# Altium schematic symbol library MDK_UltraZohm_Adapter.SCHLIB: 14 symbols
Pins are listed as number, name and electrical type; pins without a type are passive.

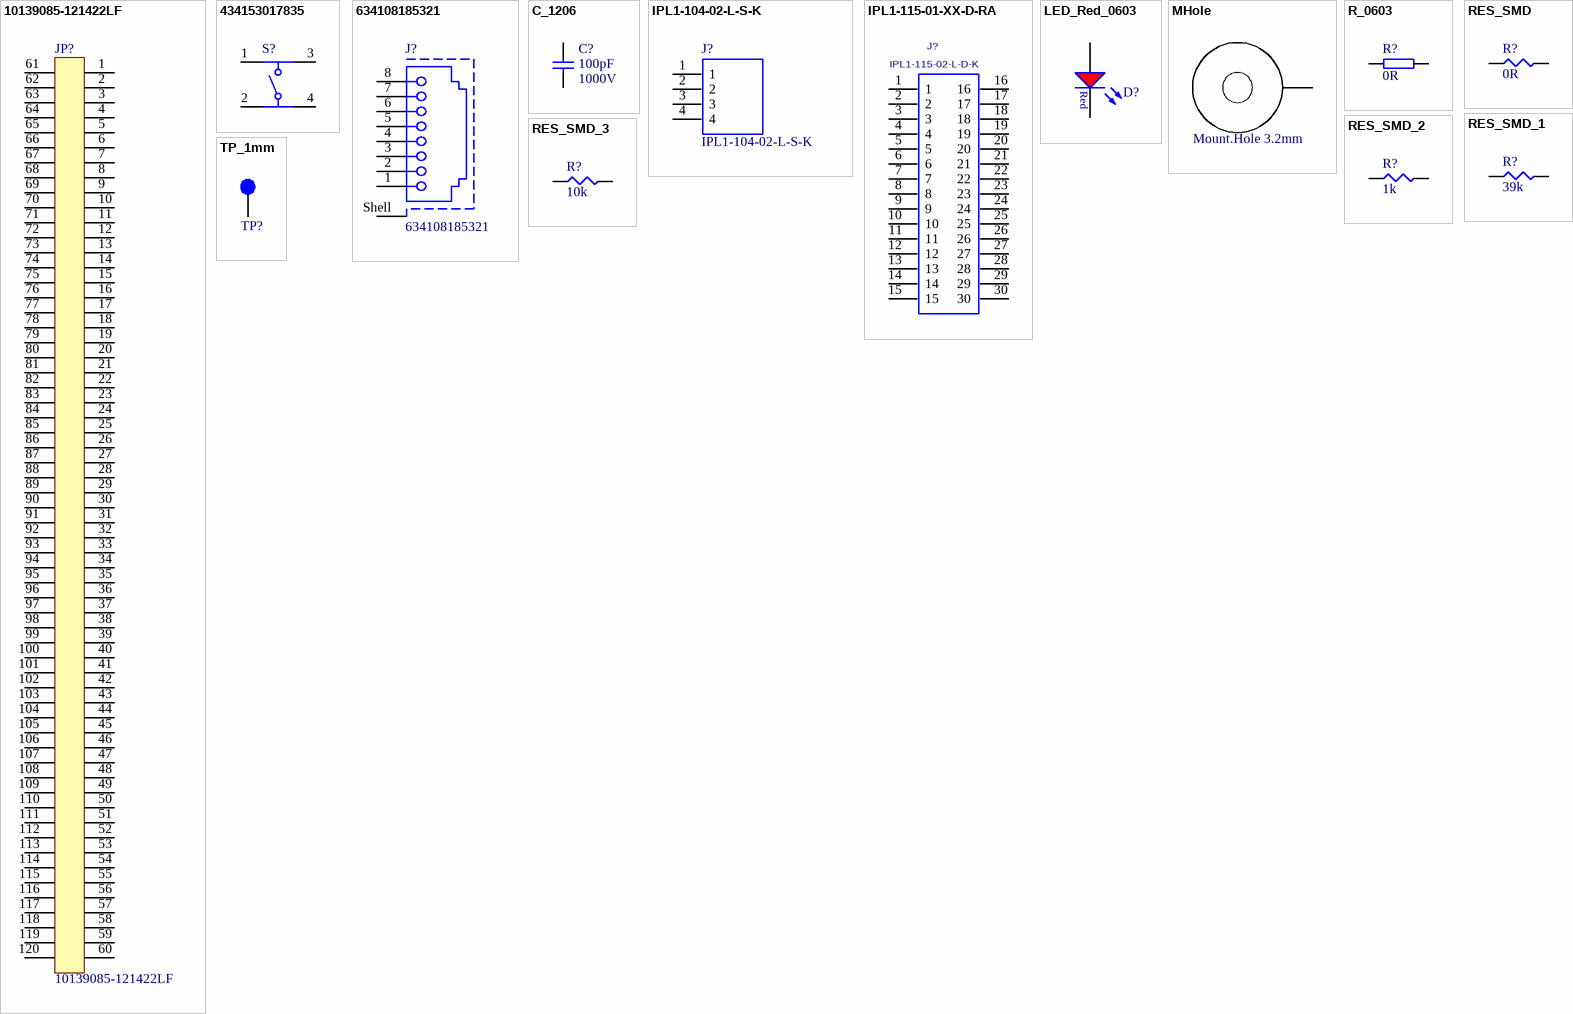
[diagram p0: symbols 10139085-121422LF to TP_1mm]

## 10139085-121422LF
designator JP?
Bergstack+ 0.8mm pich - 120pin B2B connector; ComponentLink1Description: Webpage; ComponentLink1URL: https://www.amphenol-icc.com/product-series/bergstak-plus-080mm-mezzanine.html; ComponentLink2Description: Datasheet; ComponentLink2URL: https://cdn.amphenol-icc.com/media/wysiwyg/files/documentation/datasheet/boardwiretoboard/bwb_bergstakplus_080mm_mezzanine.pdf; ComponentLink3Description: Component Drawing; ComponentLink3URL: https://cdn.amphenol-icc.com/media/wysiwyg/files/drawing/10139085.pdf; Part Number: 10139085-121422LF; Publisher: Amphenol ICC
footprint 10139085-121422LF (Bergstack+ 0.8mm pich - 120pin B2B connector)
pins: 1, 2, 3, 4, 5, 6, 7, 8, 9, 10, 11, 12, 13, 14, 15, 16, 17, 18, 19, 20, 21, 22, 23, 24, 25, 26, 27, 28, 29, 30, 31, 32, 33, 34, 35, 36, 37, 38, 39, 40, 41, 42, 43, 44, 45, 46, 47, 48, 49, 50, 51, 52, 53, 54, 55, 56, 57, 58, 59, 60, 61, 62, 63, 64, 65, 66, 67, 68, 69, 70, 71, 72, 73, 74, 75, 76, 77, 78, 79, 80, 81, 82, 83, 84, 85, 86, 87, 88, 89, 90, 91, 92, 93, 94, 95, 96, 97, 98, 99, 100, 101, 102, 103, 104, 105, 106, 107, 108, 109, 110, 111, 112, 113, 114, 115, 116, 117, 118, 119, 120

## 434153017835
designator S?  (value not drawn)
WS-TASV J-Bend SMT Tact Switch 3.5x2.9mm, height 1.7mm, 350gf; Rated Voltage: 12VDC; Rated Current: 50mA; Washable: No; ComponentLink1Description: Manufacturer; ComponentLink1URL: http://www.we-online.de; ComponentLink2Description: Datasheet; ComponentLink2URL: https://katalog.we-online.com/em/datasheet/434153017835.pdf; Operating Temperature: -40 to +85degC; Part Number: 434153017835; Published Date: September 2019; Contact Material: Stainless Steel; Height: 1.7mm; Mounting Technology: SMT; Contact Plating: Silver; Operation Force: 350gf; Packaging: Tape and Reel; Terminal Material: Copper Alloy; Publisher: Wurth Elektronik; Terminal Plating: Silver
footprint 434153017835 (Tact Switch, SMD, body 3.5x2.9mm)
pins: 1, 2, 3, 4

## 634108185321
designator J?
WR-MJ Modular Jack SMT Vertical Shielded with Solder Tab 8P8C Top Entry; Manufacturer: Wurth Elektronik; Rated Current: 1.5A; Contact Resistance: 30mOhm; Insulation Resistance: 1000MOhm; Working Voltage: 125VAC; Withstanding Voltage: 1000VAC; ComponentLink1Description: Manufacturer; ComponentLink1URL: http://www.we-online.de; ComponentLink2Description: Datasheet; ComponentLink2URL: https://katalog.we-online.com/em/datasheet/634108185321.pdf; Packaging: Tape and Reel; Mounting Technology: SMT; Operating Temperature: -40 to +85degC; Manufacturer Part Number: 634108185321; Published Date: September 2020; xPxC: 8P8C; Type: Vertical
footprint 634108185321
pins: 1, 2, 3, 4, 5, 6, 7, 8, Shell

## C_1206
designator C?, comment 100pF  Voltage: 1000V
Capacitor 1206; MPN: 885342008009; Tolerance: 5%; MF: Würth Elektronik; Dielectric: C0G; Package: 1206; Value: 100pF; Created: 2018_06_25_AGeiger; Supplier 1: Mouser; Supplier Part Number 1: 710-885342008009
footprint C_1206
pins: 1, 2

## IPL1-104-02-L-S-K
designator J?
URL: https://www.samtec.com/products/ipl1-104-02-l-s-k#models
footprint IPL1-104-02-L-S-K
pins: 1, 2, 3, 4

## IPL1-115-01-XX-D-RA
designator J?, comment IPL1-115-02-L-D-K
Terminal Assembly, Double Row, Right Angle, Thru-Hole, 0.100" x 0.100" Pitch, 30 Pins.; MPN: IPL1-115-01-L-D-RA-K; MF: SAMTEC; Created: 2019-12-17_Wendy_Xin; HelpURL: https://www.samtec.com/products/ipl1; ComponentLink1Description: Datasheet; ComponentLink1URL: http://suddendocs.samtec.com/catalog_english/ipl1.pdf; Supplier 2: Farnell; Supplier Part Number 2: 2018467; Supplier 1: Digi-Key; Supplier Part Number 1: SAM9611-ND; Supplier 3: Mouser; Supplier Part Number 3: 200-IPL111501LDRAK
footprint IPL1-115-01-XX-D-RA
footprint IPL1-115-01-XX-D-RA
footprint IPL1-115-02-L-D-K
pins: 1, 2, 3, 4, 5, 6, 7, 8, 9, 10, 11, 12, 13, 14, 15, 16, 17, 18, 19, 20, 21, 22, 23, 24, 25, 26, 27, 28, 29, 30

## LED_Red_0603
designator D?, comment 150060RS75000  (value not drawn)
WL-SMCW SMD Mono-color Chip LED Waterclear, size 0603, Red, 2 V, 140°; Forward Voltage: 2 V; Luminous Intensity: 250 mcd; Peak Wavelength: 630 nm; Dominant Wavelength: 625 nm; MF: Wuerth Elektronik; Published Date: Sep. 2017; ComponentLink1Description: Manufacturer; ComponentLink1URL: http://www.we-online.de; ComponentLink2Description: Datasheet; ComponentLink2URL: http://katalog.we-online.com/led/datasheet/150060RS75000.pdf; MPN: 150060RS75000; Size: 0603; Viewing Angle: 140°; Emitting Color: Red; Value: 150060RS75000; Package: 0603; Created: 2018_09_06_AGeiger; Supplier 1: Farnell; Supplier Part Number 1: 2322071; Supplier 2: Mouser; Supplier Part Number 2: 710-150060RS75000; Supplier 3: Digi-Key; Supplier Part Number 3: 732-4978-1-ND
footprint WL-SMCW_0603 (SMD Mono-color Chip LED, body 1.6x0.8mm)
pins: 1 K, 2 A

## MHole
designator H?, comment Mount.Hole 3.2mm  (no BOM)
AN: 22898; Mixed: THT
footprint MHole3_2mm_Screw
footprint MHole3_2mm_Spacer
footprint MHole3_2mm_No_Screw
pins: 1

## R_0603
designator R?, comment 0R
MPN: CRCW06031M00FKEAC; MF: Vishay / Dale; Tolerance: 1%; Value: 0R; Supplier 1: mouser; Supplier Part Number 1: 71-CRCW06031M00FKEAC; Package: 0603
footprint RESC1608X06N (Chip Resistor, 2-Leads, Body 1,60x0,80mm, IPC Medium Density)
pins: 1, 2

## RES_SMD
designator R?, comment 0R
RES SMD; Part Number: Generic 1% tol.; VALUE: 0R; Publisher: Generic
footprint SMD-0201-RES
footprint SMD-0402-RES
footprint RESC0603 (Chip Resistor, 2-Leads, Body 1,60x0,85mm, IPC Medium Density)
footprint SMD-0805-RES
footprint SMD-1206-RES
footprint SMD-2512-RES
footprint SMD-0603-RES-incr_space
pins: 1, 2

## RES_SMD_1
designator R?, comment 39k
RES SMD; Part Number: Generic 1% tol.; VALUE: 39k; Publisher: Generic
footprint SMD-0201-RES
footprint SMD-0402-RES
footprint RESC0603 (Chip Resistor, 2-Leads, Body 1,60x0,85mm, IPC Medium Density)
footprint SMD-0805-RES
footprint SMD-1206-RES
footprint SMD-2512-RES
footprint SMD-0603-RES-incr_space
pins: 1, 2

## RES_SMD_2
designator R?, comment 1k
RES SMD; Part Number: Generic 1% tol.; VALUE: 1k; Publisher: Generic
footprint SMD-0201-RES
footprint SMD-0402-RES
footprint RESC0603 (Chip Resistor, 2-Leads, Body 1,60x0,85mm, IPC Medium Density)
footprint SMD-0805-RES
footprint SMD-1206-RES
footprint SMD-2512-RES
footprint SMD-0603-RES-incr_space
pins: 1, 2

## RES_SMD_3
designator R?, comment 10k
RES SMD; Part Number: Generic 1% tol.; VALUE: 10k; Publisher: Generic
footprint SMD-0201-RES
footprint SMD-0402-RES
footprint RESC0603 (Chip Resistor, 2-Leads, Body 1,60x0,85mm, IPC Medium Density)
footprint SMD-0805-RES
footprint SMD-1206-RES
footprint SMD-2512-RES
footprint SMD-0603-RES-incr_space
pins: 1, 2

## TP_1mm
designator TP?, comment TP?  (value not drawn)  (no BOM)
Testpoint 1mm; Created: 2018_06_25_AGeiger; Value: Testpoint 1mm
footprint TP_1mm
pins: 1